# Altium schematic symbol library part1.SchLib: 1 symbol
Pins are listed as number, name and electrical type; pins without a type are passive.

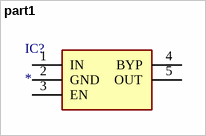
[diagram p0: symbol part1]

## part1
designator IC?
Integrated Circuit; Manufacturer_Name: Microchip; Manufacturer_Part_Number: MIC5205-3.0YM5-TR; Datasheet Link: https://ms.componentsearchengine.com/Datasheets/2/MIC5205-3.0YM5-TR.pdf; Height: 1.45mm; Mouser Part Number: 998-MIC5205-3.0YM5TR; Mouser Price/Stock: https://www.mouser.co.uk/ProductDetail/Microchip-Technology-Micrel/MIC5205-30YM5-TR?qs=U6T8BxXiZAVZKTKJr7dRcw%3D%3D
footprint SOT95P280X145-5N
pins: 1 IN, 2 GND, 3 EN, 4 BYP, 5 OUT